# Altium footprint library Archim.PcbLib: 75 footprints (part 4 of 5)
Each footprint in its own frame and in the unit in brackets; x right, y up, seen from the top. Pads: shape width x height; smd on the part's side, far side on the other; paste and mask are expansions set on the pad; w line width, h text height; cw(c..) or ccw(c..) is an arc to the next point about the centre after c.
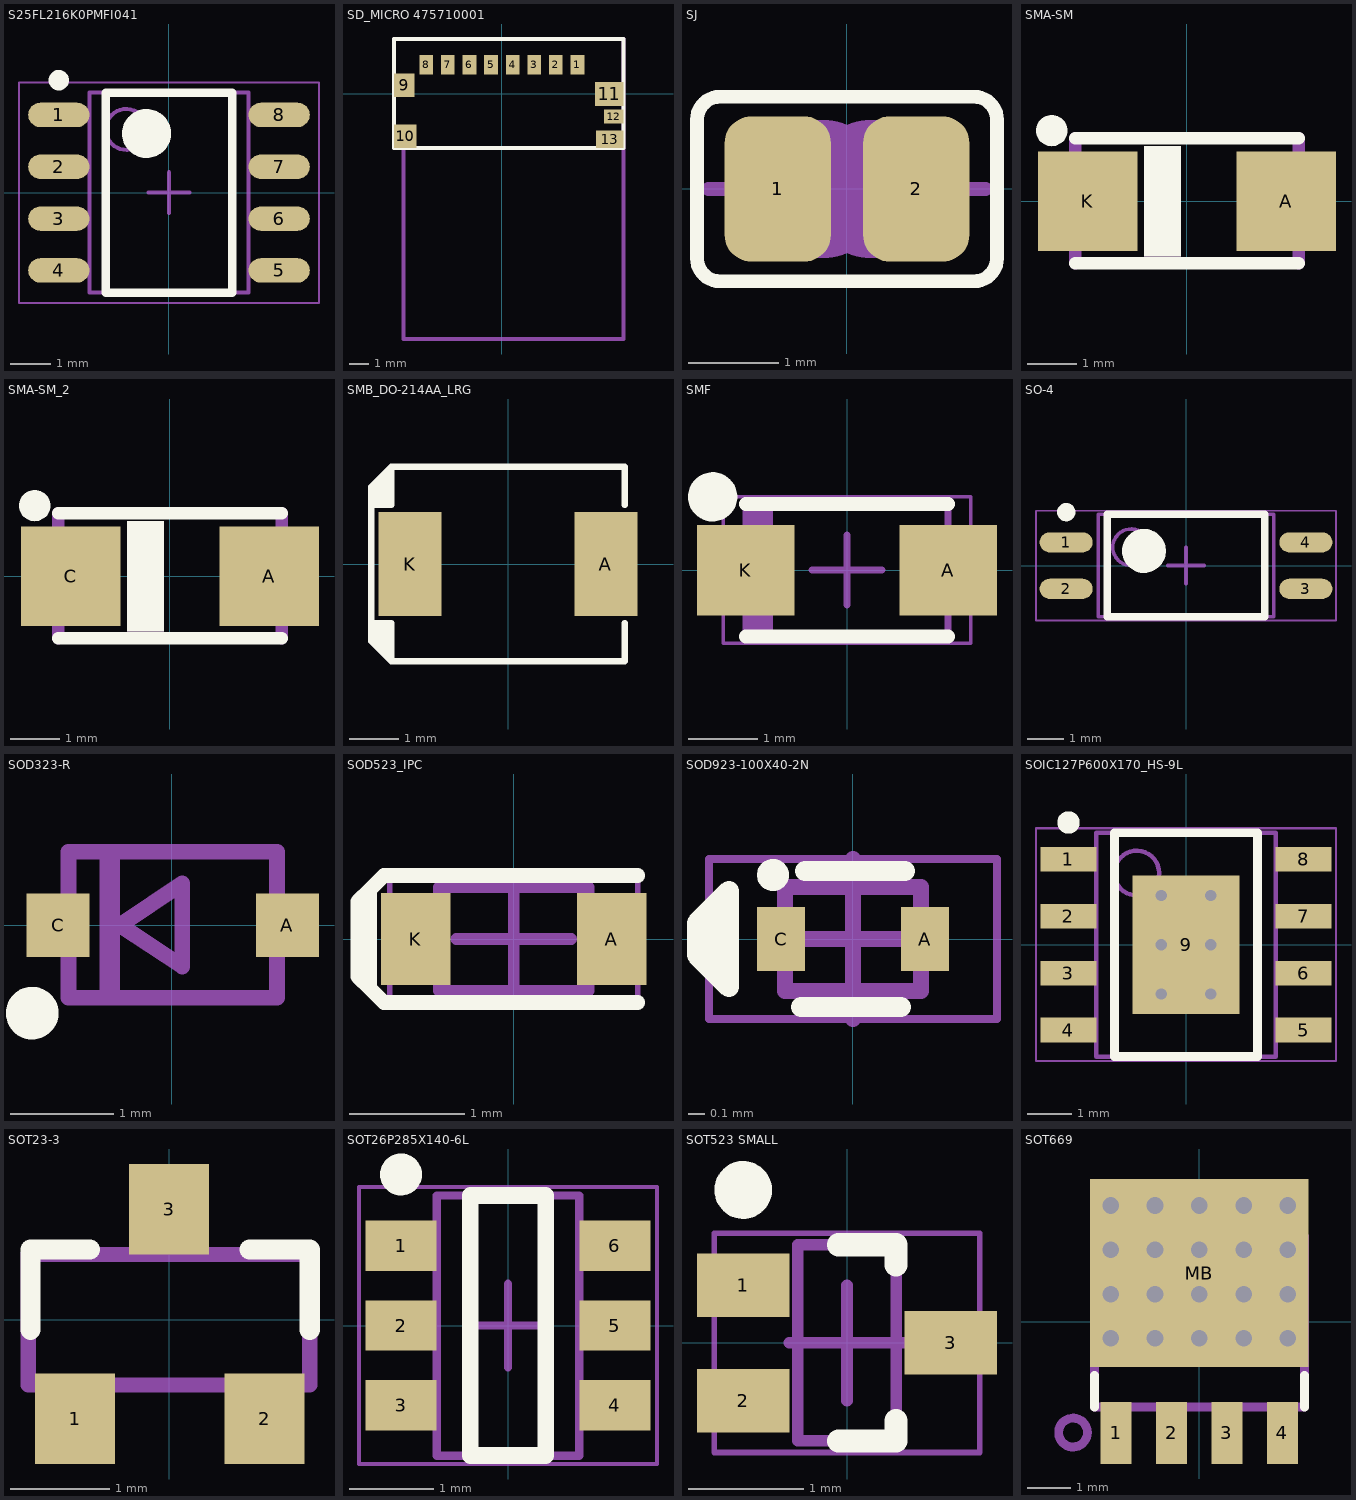
[diagram p3: the footprints below, top view; thin cyan lines are the x and y axes]

## S25FL216K0PMFI041 [mm] "SOIC, 8-Leads, Body 4.90x3.90mm, Pitch 1.27mm, IPC Medium Density"
height 1.75
pads (8):
  oval 1.5x0.6 smd: 1(-2.7,1.905) 2(-2.7,0.635) 3(-2.7,-0.635) 4(-2.7,-1.905) 5(2.7,-1.905) 6(2.7,-0.635) 7(2.7,0.635) 8(2.7,1.905)
Top Overlay:
  circle w0.25: c-2.7,2.755 r0.125
  circle w0.6: c-0.55,1.45 r0.3
  lines w0.2: -1.55,-2.45 -1.55,2.45 1.55,2.45 1.55,-2.45 -1.55,-2.45
Mechanical 13:
  circle w0.1: c-1.05,1.55 r0.5
  lines w0.1: -1.95,-2.45 -1.95,2.45 1.95,2.45 1.95,-2.45 -1.95,-2.45
Mechanical 15:
  lines w0.05: -3.675,-2.7 -3.675,2.7 3.675,2.7 3.675,-2.7 -3.675,-2.7
  lines w0.1: -0.5,0 0.5,0 ; 0,-0.5 0,0.5
3D body: height 1.75, standoff 0.1, extent -1.95,-2.45 1.95,2.45

## SD_MICRO 475710001 [mm] "CONN MICRO SD CARD PUSH-PULL R/A Half length"
height 2.3
pads (13):
  rect 0.7x1 smd: 1(3.85,1.465) 2(2.75,1.465) 3(1.65,1.465) 4(0.55,1.465) 5(-0.55,1.465) 6(-1.65,1.465) 7(-2.75,1.465) 8(-3.85,1.465)
  rect 1.05x1.2 smd: 9(-4.975,0.415)
  rect 1.15x1.2 smd: 10(-4.925,-2.175)
  rect 1.45x1.2 smd: 11(5.475,-0.025)
  rect 1x0.7 smd: 12(5.7,-1.175)
  rect 1.4x0.9 smd: 13(5.5,-2.325)
Top Overlay:
  lines w0.203: -5.5,-2.775 6.2,-2.775 6.2,2.775 -5.5,2.775 -5.5,-2.775
Mechanical 15:
  lines w0.203: -5,-2.775 -5,-12.5 6.2,-12.5 6.2,2.775 ; 6.2,2.775 6.2,-2.775 -5.5,-2.775 -5.5,2.775 6.2,2.775
3D body "475710001.stp": height 2.36, standoff 0.07, extent -5.38,-2.55 6.02,2.9

## SJ [mil]
pads (2):
  rrect50% 46x63 smd: 1(-30,0) 2(30,0)
Top Overlay:
  lines w6: -65,-30 ccw(c-55,-30) -55,-40 55,-40 ccw(c55,-30) 65,-30 65,30 ccw(c55,30) 55,40 -55,40 ccw(c-55,30) -65,30 -65,-30
Top Solder:
  rectangle: -18.7,-34.45 16.73,36
Mechanical 8:
  lines w6: -60,0 -40,0 ; 40,0 60,0
  lines w50: -10,-5 cw(c-10,0) -10,5 ; 10,-5 ccw(c10,0) 10,5
3D body: height 3.94, standoff 0, extent -53.15,-30.51 -6.89,31.5
3D body: height 3.94, standoff 0, extent 6.89,-31.5 53.15,30.51

## SMA-SM [mil]
height 25.59
pads (3):
  rect 79x79 smd: A(79,0) K(-78.74,0)
  round 25 on Top Overlay: ""(-107.28,56.1)
Top Overlay:
  rectangle: -34.06,-43.9 -4.53,44
  lines w10: -88.58,-49.21 89,-49.21 ; -88.58,50 89,50
Mechanical 8:
  rectangle: 94,-32.48 111,32
  rectangle: -110.24,-31.5 -93.7,32
  rectangle: -34.06,-43.9 -4.53,44
  lines w10: -88.58,-49.21 -88.58,50 ; 89,-49.21 89,50
3D body: height 116.14, standoff 0, extent -93.58,-54.21 94,55
3D body: height 78.74, standoff 0, extent -105,-40 105,40

## SMA-SM_2 [mil]
pads (3):
  rect 79x79 smd: A(79,0) C(-78.74,0)
  round 25 on Top Overlay: ""(-107.28,56.1)
Top Overlay:
  rectangle: -34.06,-43.9 -4.53,44
  lines w10: -88.58,-49.21 89,-49.21 ; -88.58,50 89,50
Mechanical 8:
  rectangle: 94,-32.48 111,32
  rectangle: -110.24,-31.5 -93.7,32
  rectangle: -34.06,-43.9 -4.53,44
  lines w10: -88.58,-49.21 -88.58,50 ; 89,-49.21 89,50
3D body: height 116.14, standoff 0, extent -93.58,-54.21 94,55
3D body: height 78.74, standoff 0, extent -105,-40 105,40

## SMB_DO-214AA_LRG [mil]
height 23.62
pads (2):
  rect 50x83 smd mask+2: A(78,0) K(-78,0)
Top Overlay:
  lines w5: -109,-47 -93,-47 -93,-77.5 ; -108,47 -93,47 -93,77.5 ; -105.5,-65 -105.5,-47.5 ; -105.5,47.5 -105.5,65 ; -102,47 -102,68.5 ; -101.5,-69 -101.5,-47.5 ; -97,-73.5 -97,-47 ; -97,47 -97,73.5 ; 93,-47 93,-77.5 -93,-77.5 ; 93,47 93,77.5 -93,77.5 ; -93,-77.5 -109,-61.5 -109,61.5 -93,77.5

## SMF [mm] "Molded Diode, 2-Leads, Body 2.80x1.80mm, IPC High Density"
height 1.08
pads (2):
  rect 1.4x1.3 smd: A(1.45,0) K(-1.45,0)
Top Overlay:
  circle w0.356: c-1.925,1.05 r0.175
  lines w0.2: -1.45,-0.95 1.45,-0.95 ; -1.45,0.95 1.45,0.95
Mechanical 13:
  rectangle: -1.45,-0.95 -1.06,0.95
  lines w0.1: -1.45,-0.95 1.45,-0.95 1.45,0.95 -1.45,0.95 -1.45,-0.95
Mechanical 15:
  lines w0.05: -1.775,-1.05 1.775,-1.05 1.775,1.05 -1.775,1.05 -1.775,-1.05
  lines w0.1: -0.5,0 0.5,0 ; 0,-0.5 0,0.5
3D body: height 1.08, standoff 0, extent -1.45,-0.95 1.45,0.95

## SO-4 [mm]
height 2.1
pads (4):
  oval 1.45x0.55 smd: 1(-3.275,0.635) 2(-3.275,-0.635) 3(3.275,-0.635) 4(3.275,0.635)
Top Overlay:
  circle w0.6: c-1.15,0.4 r0.3
  circle w0.25: c-3.275,1.46 r0.125
  lines w0.2: -2.15,-1.4 2.15,-1.4 2.15,1.4 -2.15,1.4 -2.15,-1.4
Mechanical 13:
  circle w0.1: c-1.5,0.5 r0.5
  lines w0.1: -2.4,-1.4 2.4,-1.4 2.4,1.4 -2.4,1.4 -2.4,-1.4
Mechanical 15:
  lines w0.05: -4.1,-1.5 4.1,-1.5 4.1,1.5 -4.1,1.5 -4.1,-1.5
  lines w0.1: -0.5,0 0.5,0 ; 0,-0.5 0,0.5
3D body "SO-4.step": height 2.1, standoff 0, extent -3.575,-1.4 3.575,1.4

## SOD323-R [mil]
height 23.62
pads (2):
  rect 24x24 smd: A(44,0) C(-43.31,0)
Top Overlay:
  circle w10: c-53.15,-33.46 r5.02
Mechanical 8:
  rectangle: -27.56,-27.56 -19.69,28
  lines w6: -39.37,-27.56 40,-27.56 40,28 -39.37,28 -39.37,-27.56 ; -19.69,0 4,16 4,-15.75 -19.69,0
3D body: height 27.56, standoff 0, extent -42.37,-30.56 43,31
3D body: height 15.75, standoff 0, extent -50,-5 -35,5
3D body: height 15.75, standoff 0, extent 35,-5 50,5

## SOD523_IPC [mm]
height 0.65
pads (2):
  rect 0.6x0.8 smd: A(0.85,0) K(-0.85,0)
Top Overlay:
  lines w0.127: 1.075,-0.55 -1.075,-0.55 -1.125,-0.55 -1.25,-0.425 ; 1.075,0.55 -1.075,0.55 -1.125,0.55 -1.25,0.425 ; -1.25,-0.425 -1.35,-0.325 -1.35,0.325 -1.25,0.425 ; -1.25,-0.425 -1.25,0.425
Mechanical 13:
  lines w0.1: -0.65,-0.45 -0.65,0.45 0.65,0.45 0.65,-0.45 -0.65,-0.45
Mechanical 15:
  lines w0.05: -1.075,-0.55 -1.075,0.55 1.075,0.55 1.075,-0.55 -1.075,-0.55
  lines w0.1: -0.5,0 0.5,0 ; 0,-0.5 0,0.5
3D body: height 0.65, standoff 0, extent -0.65,-0.45 0.65,0.45

## SOD923-100X40-2N [mm] "SODFL, 2-Leads, Body 0.60x1.00mm, IPC Medium Density"
height 0.4
pads (2):
  rect 0.3x0.4 smd paste-0.025: A(0.45,0) C(-0.45,0)
Top Overlay:
  circle w0.1: c-0.5,0.4 r0.05
  lines w0.127: -0.325,-0.425 0.3,-0.425 ; -0.3,0.425 0.325,0.425 ; -0.875,0.2 -0.775,0.3 -0.775,-0.3 ; -0.875,0.2 -0.875,-0.2 -0.775,-0.3 ; -0.875,0.2 -0.975,0.1 -0.975,-0.1 -0.775,-0.3
Mechanical 13:
  lines w0.1: -0.425,-0.325 0.425,-0.325 0.425,0.325 -0.425,0.325 -0.425,-0.325
Mechanical 15:
  lines w0.05: -0.9,-0.5 0.9,-0.5 0.9,0.5 -0.9,0.5 -0.9,-0.5
  lines w0.1: -0.5,0 0.5,0 ; 0,-0.5 0,0.5
3D body: height 0.4, standoff 0, extent -0.425,-0.325 0.425,0.325

## SOIC127P600X170_HS-9L [mm] "SOIC, 8-Leads, Body 4.90x3.90mm, Pitch 1.27mm, Thermal Pad 3.10x2.40mm, IPC High Density"
height 1.7
pads (9):
  rect 1.25x0.55 smd: 1(-2.625,1.905) 2(-2.625,0.635) 3(-2.625,-0.635) 4(-2.625,-1.905) 5(2.625,-1.905) 6(2.625,-0.635) 7(2.625,0.635) 8(2.625,1.905)
  rect 2.4x3.1 smd: 9(0,0)
via 0.55,-1.1 diameter 0.559 hole 0.254
via -0.55,-1.1 diameter 0.559 hole 0.254
via 0.55,0 diameter 0.559 hole 0.254
via -0.55,0 diameter 0.559 hole 0.254
via 0.55,1.1 diameter 0.559 hole 0.254
via -0.55,1.1 diameter 0.559 hole 0.254
Top Overlay:
  circle w0.25: c-2.625,2.73 r0.125
  lines w0.2: -1.6,-2.5 1.6,-2.5 1.6,2.5 -1.6,2.5 -1.6,-2.5
Mechanical 13:
  circle w0.1: c-1.1,1.6 r0.5
  lines w0.1: -2,-2.5 2,-2.5 2,2.5 -2,2.5 -2,-2.5
Mechanical 15:
  lines w0.05: -3.35,-2.6 3.35,-2.6 3.35,2.6 -3.35,2.6 -3.35,-2.6
  lines w0.1: -0.5,0 0.5,0 ; 0,-0.5 0,0.5
3D body: height 1.7, standoff 0.1, extent -2,-2.5 2,2.5

## SOT23-3 [mil]
height 23.62
pads (3):
  rect 32x36 smd: 1(-37.4,-39.37) 2(38,-39.37) 3(0,44)
Top Overlay:
  lines w8: -55.12,-3.94 -55.12,28 -31.5,28 ; 32,28 56,28 56,-3.94
Mechanical 8:
  lines w6: -56,-26 -56,26 56,26 56,-26 -56,-26
3D body: height 44.09, standoff 0, extent -59,-29 59,29
3D body: height 15.75, standoff 0, extent -10,27.5 10,52.5
3D body: height 15.75, standoff 0, extent -47.5,-45 -22.5,-25
3D body: height 15.75, standoff 0, extent 27.5,-45 52.5,-25

## SOT26P285X140-6L [mm] "SOT26, 6-Leads, Body 3.00x2.85mm, Pitch 0.95mm, IPC High Density"
height 1.4
pads (6):
  rect 0.85x0.6 smd: 1(-1.275,0.95) 2(-1.275,0) 3(-1.275,-0.95) 4(1.275,-0.95) 5(1.275,0) 6(1.275,0.95)
Top Overlay:
  circle w0.25: c-1.275,1.8 r0.125
  lines w0.2: -0.45,-1.55 0.45,-1.55 0.45,1.55 -0.45,1.55 -0.45,-1.55
Mechanical 13:
  lines w0.1: -0.85,-1.55 -0.85,1.55 0.85,1.55 0.85,-1.55 -0.85,-1.55
Mechanical 15:
  lines w0.05: -1.775,-1.65 -1.775,1.65 1.775,1.65 1.775,-1.65 -1.775,-1.65
  lines w0.1: -0.5,0 0.5,0 ; 0,-0.5 0,0.5
3D body: height 1.4, standoff 0.1, extent -0.85,-1.55 0.85,1.55

## SOT523 SMALL [mm]
height 0.8
pads (3):
  rect 0.8x0.55 smd: 1(-0.9,0.5) 2(-0.9,-0.5) 3(0.9,0)
Top Overlay:
  circle w0.25: c-0.9,1.325 r0.125
  lines w0.2: -0.075,-0.85 0.425,-0.85 0.425,-0.675 ; -0.075,0.85 0.425,0.85 0.425,0.675
Mechanical 13:
  lines w0.1: -0.425,-0.85 0.425,-0.85 0.425,0.85 -0.425,0.85 -0.425,-0.85
Mechanical 15:
  lines w0.05: -1.15,-0.95 1.15,-0.95 1.15,0.95 -1.15,0.95 -1.15,-0.95
  lines w0.1: -0.5,0 0.5,0 ; 0,-0.5 0,0.5
3D body: height 0.8, standoff 0.1, extent -0.425,-0.85 0.425,0.85

## SOT669 [mil]
pads (5):
  rect 28x56 smd: 1(-75,-100.39) 2(-25,-100.39) 3(25,-100.39) 4(75,-100.39)
  rect 197x170 smd: MB(0,44)
via 40,-15 diameter 29 hole 15
via 80,-15 diameter 29 hole 15
via 80,25 diameter 29 hole 15
via 40,25 diameter 29 hole 15
via 40,65 diameter 29 hole 15
via 80,65 diameter 29 hole 15
via 80,105 diameter 29 hole 15
via 40,105 diameter 29 hole 15
via -40,105 diameter 29 hole 15
via -80,105 diameter 29 hole 15
via -80,65 diameter 29 hole 15
via -40,65 diameter 29 hole 15
via -40,25 diameter 29 hole 15
via -80,25 diameter 29 hole 15
via -80,-15 diameter 29 hole 15
via -40,-15 diameter 29 hole 15
via 0,-15 diameter 29 hole 15
via 0,25 diameter 29 hole 15
via 0,105 diameter 29 hole 15
via 0,65 diameter 29 hole 15
Top Overlay:
  lines w8: -94.49,-76.77 -94.49,-48.23 ; 95,-76.77 95,-48.23
Top Paste:
  region: -96.06,128 -85.04,128 -85.04,76 -96.06,76
  region: 87,128 97,128 97,76 87,76
  region: -68.11,128 -45.67,128 -45.67,103 -49.21,100 -64.17,100 -68.11,104
  region: -30.32,128 -7.87,128 -7.87,103 -11.42,100 -26.38,100 -30.32,104
  region: 8,128 30,128 30,104 26,100 12,100 8,104
  region: 45,128 67,128 67,104 64,100 49,100 45,104
  region: -59.45,-28.74 -49.61,-28.74 -45.28,-33.07 -45.28,-37.8 -59.45,-37.8
  region: 60,-28.74 51,-28.74 47,-33.07 47,-37.8 60,-37.8
  region: -29.13,-37.8 -29.13,-32.68 -25.59,-29.13 -11.42,-29.13 -7.87,-32.68 -7.87,-37.8
  region: 9,-37.8 9,-32.68 13,-29.13 27,-29.13 30,-32.68 30,-37.8
Mechanical 8:
  circle w8: c-113.98,-100 r13
  rectangle: -84.84,-122.05 -65.16,-80.71
  rectangle: -86.81,-110.24 -63.19,-85.63
  rectangle: -34.84,-122.05 -15.16,-80.71
  rectangle: -36.81,-110.24 -13.19,-85.63
  rectangle: 16,-122.05 35,-80.71
  rectangle: 14,-110.24 37,-85.63
  rectangle: 66,-122.05 85,-80.71
  rectangle: 64,-110.24 87,-85.63
  lines w8: -94.49,77 -94.49,-76.77 95,-76.77 95,77
3D body: height 43.31, standoff 0, extent -94.47,-76.75 94.98,76.98
3D body: height 11.81, standoff 0, extent -96.06,-37.8 97,128
3D body: height 11.81, standoff 0, extent -85,-120 -65,-75
3D body: height 11.81, standoff 0, extent -35,-120 -15,-75
3D body: height 11.81, standoff 0, extent 15,-120 35,-75
3D body: height 11.81, standoff 0, extent 65,-120 85,-75